# Altium integrated library Maxim Power Mgt Battery.IntLib: 10 symbols
Pins are listed as number, name and electrical type; pins without a type are passive.

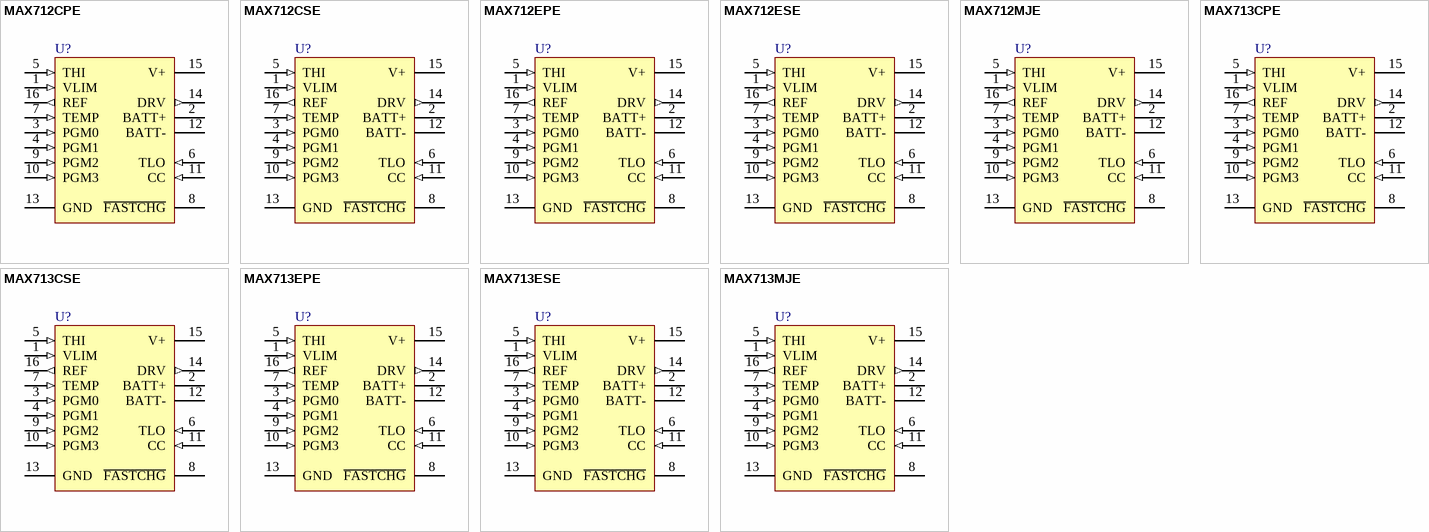
[diagram p0: symbols MAX712CPE to MAX713MJE]

## MAX712CPE
designator U?
NiCd/NiMH Battery Fast-Charge Controller; Published: 16-Jan-2001; LatestRevisionDate: 29-May-2009; LatestRevisionNote: Component Body Added.; DatasheetVersion: Jan-1997; PackageVersion: Aug-2000; PackageReference: PE16; Publisher: Altium Limited; PackageDescription: DIP, 16-Pin, Row Spacing 7.62 mm, Pitch 2.54 mm; Code_JEDEC: MS-001-BB; ComponentLink1Description: Manufacturer Link; ComponentLink1URL: http://www.maxim-ic.com/; ComponentLink2Description: Datasheet; ComponentLink2URL: http://pdfserv.maxim-ic.com/en/ds/MAX712-MAX713.pdf
footprint PE16 (DIP, 16-Leads, Row Spacing 7.62mm, Pitch 2.54mm, Body 19.18x7.24mm)
3D model PE16 (DIP, 16-Pin, Row Spacing 7.62 mm, Pitch 2.54 mm)
pins: 1 VLIM (in), 2 BATT+ (power), 3 PGM0 (in), 4 PGM1 (in), 5 THI (in), 6 TLO (in), 7 TEMP (in), 8 ~{FASTCHG} (oc), 9 PGM2 (in), 10 PGM3 (in), 11 CC (in), 12 BATT- (power), 13 GND (power), 14 DRV (out), 15 V+ (power), 16 REF (out)

## MAX712CSE
designator U?
NiCd/NiMH Battery Fast-Charge Controller; Published: 16-Jan-2001; LatestRevisionDate: 13-Apr-2006; LatestRevisionNote: IPC-7351 Footprint Added.; DatasheetVersion: Jan-1997; PackageReference: NSO16; Publisher: Altium Limited; PackageDescription: 16-Pin Small Outline Integrated Circuit 1.27 mm Pitch; Code_JEDEC: MS-012-AC; Code_IPC: SOIC127P600-16; ComponentLink1Description: Manufacturer Link; ComponentLink1URL: http://www.maxim-ic.com/; ComponentLink2Description: Datasheet; ComponentLink2URL: http://pdfserv.maxim-ic.com/en/ds/MAX712-MAX713.pdf
footprint NSO16_N (SOIC, 16-Leads, Body 9.9x3.9mm, Pitch 1.27mm, IPC Medium Density)
footprint NSO16_L (SOIC, 16-Leads, Body 9.9x3.9mm, Pitch 1.27mm, IPC High Density)
footprint NSO16_M (SOIC, 16-Leads, Body 9.9x3.9mm, Pitch 1.27mm, IPC Low Density)
3D model NSO16 (16-Pin Small Outline Integrated Circuit 1.27 mm Pitch)
pins: 1 VLIM (in), 2 BATT+ (power), 3 PGM0 (in), 4 PGM1 (in), 5 THI (in), 6 TLO (in), 7 TEMP (in), 8 ~{FASTCHG} (oc), 9 PGM2 (in), 10 PGM3 (in), 11 CC (in), 12 BATT- (power), 13 GND (power), 14 DRV (out), 15 V+ (power), 16 REF (out)

## MAX712EPE
designator U?
NiCd/NiMH Battery Fast-Charge Controller; Published: 16-Jan-2001; LatestRevisionDate: 29-May-2009; LatestRevisionNote: Component Body Added.; DatasheetVersion: Jan-1997; PackageVersion: Aug-2000; PackageReference: PE16; Publisher: Altium Limited; PackageDescription: DIP, 16-Pin, Row Spacing 7.62 mm, Pitch 2.54 mm; Code_JEDEC: MS-001-BB; ComponentLink1Description: Manufacturer Link; ComponentLink1URL: http://www.maxim-ic.com/; ComponentLink2Description: Datasheet; ComponentLink2URL: http://pdfserv.maxim-ic.com/en/ds/MAX712-MAX713.pdf
footprint PE16 (DIP, 16-Leads, Row Spacing 7.62mm, Pitch 2.54mm, Body 19.18x7.24mm)
3D model PE16 (DIP, 16-Pin, Row Spacing 7.62 mm, Pitch 2.54 mm)
pins: 1 VLIM (in), 2 BATT+ (power), 3 PGM0 (in), 4 PGM1 (in), 5 THI (in), 6 TLO (in), 7 TEMP (in), 8 ~{FASTCHG} (oc), 9 PGM2 (in), 10 PGM3 (in), 11 CC (in), 12 BATT- (power), 13 GND (power), 14 DRV (out), 15 V+ (power), 16 REF (out)

## MAX712ESE
designator U?
NiCd/NiMH Battery Fast-Charge Controller; Published: 16-Jan-2001; LatestRevisionDate: 13-Apr-2006; LatestRevisionNote: IPC-7351 Footprint Added.; DatasheetVersion: Jan-1997; PackageReference: NSO16; Publisher: Altium Limited; PackageDescription: 16-Pin Small Outline Integrated Circuit 1.27 mm Pitch; Code_JEDEC: MS-012-AC; Code_IPC: SOIC127P600-16; ComponentLink1Description: Manufacturer Link; ComponentLink1URL: http://www.maxim-ic.com/; ComponentLink2Description: Datasheet; ComponentLink2URL: http://pdfserv.maxim-ic.com/en/ds/MAX712-MAX713.pdf
footprint NSO16_N (SOIC, 16-Leads, Body 9.9x3.9mm, Pitch 1.27mm, IPC Medium Density)
footprint NSO16_L (SOIC, 16-Leads, Body 9.9x3.9mm, Pitch 1.27mm, IPC High Density)
footprint NSO16_M (SOIC, 16-Leads, Body 9.9x3.9mm, Pitch 1.27mm, IPC Low Density)
3D model NSO16 (16-Pin Small Outline Integrated Circuit 1.27 mm Pitch)
pins: 1 VLIM (in), 2 BATT+ (power), 3 PGM0 (in), 4 PGM1 (in), 5 THI (in), 6 TLO (in), 7 TEMP (in), 8 ~{FASTCHG} (oc), 9 PGM2 (in), 10 PGM3 (in), 11 CC (in), 12 BATT- (power), 13 GND (power), 14 DRV (out), 15 V+ (power), 16 REF (out)

## MAX712MJE
designator U?
NiCd/NiMH Battery Fast-Charge Controller; Published: 16-Jan-2001; LatestRevisionDate: 29-May-2009; LatestRevisionNote: Component Body Added.; DatasheetVersion: Jan-1997; PackageVersion: 1996; PackageReference: JE16; Publisher: Altium Limited; PackageDescription: DIP, 16-Pin, Row Spacing 7.62 mm, Pitch 2.54 mm; ComponentLink1Description: Manufacturer Link; ComponentLink1URL: http://www.maxim-ic.com/; ComponentLink2Description: Datasheet; ComponentLink2URL: http://pdfserv.maxim-ic.com/en/ds/MAX712-MAX713.pdf
footprint JE16 (DIP, 16-Leads, Row Spacing 7.62mm, Pitch 2.54mm, Body 20.37x6.73mm)
3D model JE16 (DIP, 16-Pin, Row Spacing 7.62 mm, Pitch 2.54 mm)
pins: 1 VLIM (in), 2 BATT+ (power), 3 PGM0 (in), 4 PGM1 (in), 5 THI (in), 6 TLO (in), 7 TEMP (in), 8 ~{FASTCHG} (oc), 9 PGM2 (in), 10 PGM3 (in), 11 CC (in), 12 BATT- (power), 13 GND (power), 14 DRV (out), 15 V+ (power), 16 REF (out)

## MAX713CPE
designator U?
NiCd/NiMH Battery Fast-Charge Controller; Published: 16-Jan-2001; LatestRevisionDate: 29-May-2009; LatestRevisionNote: Component Body Added.; DatasheetVersion: Jan-1997; PackageVersion: Aug-2000; PackageReference: PE16; Publisher: Altium Limited; PackageDescription: DIP, 16-Pin, Row Spacing 7.62 mm, Pitch 2.54 mm; Code_JEDEC: MS-001-BB; ComponentLink1Description: Manufacturer Link; ComponentLink1URL: http://www.maxim-ic.com/; ComponentLink2Description: Datasheet; ComponentLink2URL: http://pdfserv.maxim-ic.com/en/ds/MAX712-MAX713.pdf
footprint PE16 (DIP, 16-Leads, Row Spacing 7.62mm, Pitch 2.54mm, Body 19.18x7.24mm)
3D model PE16 (DIP, 16-Pin, Row Spacing 7.62 mm, Pitch 2.54 mm)
pins: 1 VLIM (in), 2 BATT+ (power), 3 PGM0 (in), 4 PGM1 (in), 5 THI (in), 6 TLO (in), 7 TEMP (in), 8 ~{FASTCHG} (oc), 9 PGM2 (in), 10 PGM3 (in), 11 CC (in), 12 BATT- (power), 13 GND (power), 14 DRV (out), 15 V+ (power), 16 REF (out)

## MAX713CSE
designator U?
NiCd/NiMH Battery Fast-Charge Controller; Published: 16-Jan-2001; LatestRevisionDate: 13-Apr-2006; LatestRevisionNote: IPC-7351 Footprint Added.; DatasheetVersion: Jan-1997; PackageReference: NSO16; Publisher: Altium Limited; PackageDescription: 16-Pin Small Outline Integrated Circuit 1.27 mm Pitch; Code_JEDEC: MS-012-AC; Code_IPC: SOIC127P600-16; ComponentLink1Description: Manufacturer Link; ComponentLink1URL: http://www.maxim-ic.com/; ComponentLink2Description: Datasheet; ComponentLink2URL: http://pdfserv.maxim-ic.com/en/ds/MAX712-MAX713.pdf
footprint NSO16_N (SOIC, 16-Leads, Body 9.9x3.9mm, Pitch 1.27mm, IPC Medium Density)
footprint NSO16_L (SOIC, 16-Leads, Body 9.9x3.9mm, Pitch 1.27mm, IPC High Density)
footprint NSO16_M (SOIC, 16-Leads, Body 9.9x3.9mm, Pitch 1.27mm, IPC Low Density)
3D model NSO16 (16-Pin Small Outline Integrated Circuit 1.27 mm Pitch)
pins: 1 VLIM (in), 2 BATT+ (power), 3 PGM0 (in), 4 PGM1 (in), 5 THI (in), 6 TLO (in), 7 TEMP (in), 8 ~{FASTCHG} (oc), 9 PGM2 (in), 10 PGM3 (in), 11 CC (in), 12 BATT- (power), 13 GND (power), 14 DRV (out), 15 V+ (power), 16 REF (out)

## MAX713EPE
designator U?
NiCd/NiMH Battery Fast-Charge Controller; Published: 16-Jan-2001; LatestRevisionDate: 29-May-2009; LatestRevisionNote: Component Body Added.; DatasheetVersion: Jan-1997; PackageVersion: Aug-2000; PackageReference: PE16; Publisher: Altium Limited; PackageDescription: DIP, 16-Pin, Row Spacing 7.62 mm, Pitch 2.54 mm; Code_JEDEC: MS-001-BB; ComponentLink1Description: Manufacturer Link; ComponentLink1URL: http://www.maxim-ic.com/; ComponentLink2Description: Datasheet; ComponentLink2URL: http://pdfserv.maxim-ic.com/en/ds/MAX712-MAX713.pdf
footprint PE16 (DIP, 16-Leads, Row Spacing 7.62mm, Pitch 2.54mm, Body 19.18x7.24mm)
3D model PE16 (DIP, 16-Pin, Row Spacing 7.62 mm, Pitch 2.54 mm)
pins: 1 VLIM (in), 2 BATT+ (power), 3 PGM0 (in), 4 PGM1 (in), 5 THI (in), 6 TLO (in), 7 TEMP (in), 8 ~{FASTCHG} (oc), 9 PGM2 (in), 10 PGM3 (in), 11 CC (in), 12 BATT- (power), 13 GND (power), 14 DRV (out), 15 V+ (power), 16 REF (out)

## MAX713ESE
designator U?
NiCd/NiMH Battery Fast-Charge Controller; Published: 16-Jan-2001; LatestRevisionDate: 13-Apr-2006; LatestRevisionNote: IPC-7351 Footprint Added.; DatasheetVersion: Jan-1997; PackageReference: NSO16; Publisher: Altium Limited; PackageDescription: 16-Pin Small Outline Integrated Circuit 1.27 mm Pitch; Code_JEDEC: MS-012-AC; Code_IPC: SOIC127P600-16; ComponentLink1Description: Manufacturer Link; ComponentLink1URL: http://www.maxim-ic.com/; ComponentLink2Description: Datasheet; ComponentLink2URL: http://pdfserv.maxim-ic.com/en/ds/MAX712-MAX713.pdf
footprint NSO16_N (SOIC, 16-Leads, Body 9.9x3.9mm, Pitch 1.27mm, IPC Medium Density)
footprint NSO16_L (SOIC, 16-Leads, Body 9.9x3.9mm, Pitch 1.27mm, IPC High Density)
footprint NSO16_M (SOIC, 16-Leads, Body 9.9x3.9mm, Pitch 1.27mm, IPC Low Density)
3D model NSO16 (16-Pin Small Outline Integrated Circuit 1.27 mm Pitch)
pins: 1 VLIM (in), 2 BATT+ (power), 3 PGM0 (in), 4 PGM1 (in), 5 THI (in), 6 TLO (in), 7 TEMP (in), 8 ~{FASTCHG} (oc), 9 PGM2 (in), 10 PGM3 (in), 11 CC (in), 12 BATT- (power), 13 GND (power), 14 DRV (out), 15 V+ (power), 16 REF (out)

## MAX713MJE
designator U?
NiCd/NiMH Battery Fast-Charge Controller; Published: 16-Jan-2001; LatestRevisionDate: 29-May-2009; LatestRevisionNote: Component Body Added.; DatasheetVersion: Jan-1997; PackageVersion: 1996; PackageReference: JE16; Publisher: Altium Limited; PackageDescription: DIP, 16-Pin, Row Spacing 7.62 mm, Pitch 2.54 mm; ComponentLink1Description: Manufacturer Link; ComponentLink1URL: http://www.maxim-ic.com/; ComponentLink2Description: Datasheet; ComponentLink2URL: http://pdfserv.maxim-ic.com/en/ds/MAX712-MAX713.pdf
footprint JE16 (DIP, 16-Leads, Row Spacing 7.62mm, Pitch 2.54mm, Body 20.37x6.73mm)
3D model JE16 (DIP, 16-Pin, Row Spacing 7.62 mm, Pitch 2.54 mm)
pins: 1 VLIM (in), 2 BATT+ (power), 3 PGM0 (in), 4 PGM1 (in), 5 THI (in), 6 TLO (in), 7 TEMP (in), 8 ~{FASTCHG} (oc), 9 PGM2 (in), 10 PGM3 (in), 11 CC (in), 12 BATT- (power), 13 GND (power), 14 DRV (out), 15 V+ (power), 16 REF (out)